# Altium schematic symbol library L78M05CDT.SchLib: 1 symbol
Pins are listed as number, name and electrical type; pins without a type are passive.

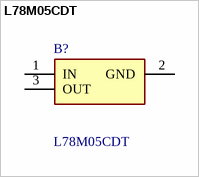
[diagram p0: symbol L78M05CDT]

## L78M05CDT
designator B?
Positive voltage regulators, Precision 500 mA, 5V, DPAK; Manufacturer_Name: STMicroelectronics; Geometry.Height: 2.5mm; Manufacturer_Part_Number: L78M05CDT; Mouser Part Number: 511-L78M05CDT; Mouser Price/Stock: https://www.mouser.co.uk/ProductDetail/STMicroelectronics/L78M05CDT?qs=EYQuxaDwR79rnNxSL0UEZA%3D%3D; Arrow Part Number: *; Arrow Price/Stock: *; Datasheet Link: https://www.st.com/resource/en/datasheet/l78m.pdf
footprint L78M05CDT
pins: 1 IN, 2 GND, 3 OUT